# Altium schematic symbol library LL-34 ZMM5V6.Schlib: 1 symbol
Pins are listed as number, name and electrical type; pins without a type are passive.

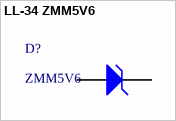
[diagram p0: symbol LL-34 ZMM5V6]

## LL-34 ZMM5V6
designator D?, comment ZMM5V6
稳压二极管
footprint LL-34
pins: 1 A, 2 K